# Altium schematic symbol library Misc.SchLib: 5 symbols
Pins are listed as number, name and electrical type; pins without a type are passive.

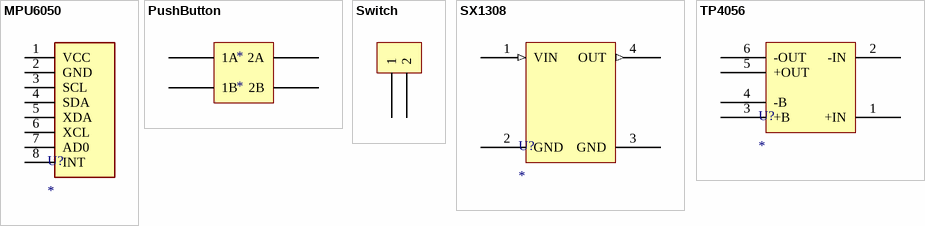
[diagram p0: symbols MPU6050 to TP4056]

## MPU6050
designator U?
footprint MPU6050
pins: 1 VCC (power), 2 GND (power), 3 SCL, 4 SDA, 5 XDA, 6 XCL, 7 AD0, 8 INT

## PushButton
designator *
footprint PushButton
pins: 1A, 1B, 2A, 2B

## Switch
designator *  (value not drawn)
footprint Switch
pins: 1, 2

## SX1308
designator U?
footprint SX1308
pins: 1 VIN (in), 2 GND (power), 3 GND (power), 4 OUT (out)

## TP4056
designator U?
footprint TP4056
pins: 1 +IN (power), 2 -IN (power), 3 +B, 4 -B, 5 +OUT (power), 6 -OUT (power)